# EAGLE library part AY-5-1013A (library general-instrument)
UART
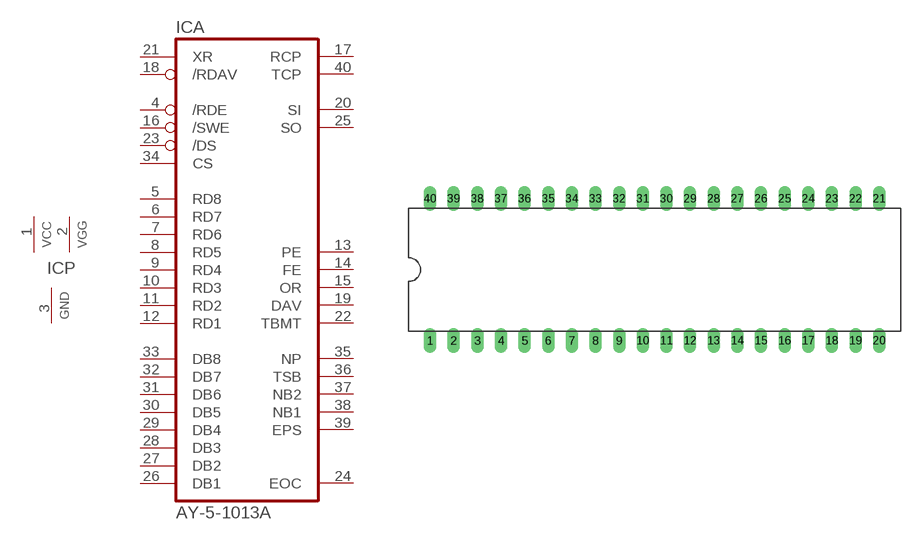
[diagram p2: symbol with the pads of DIL40; footprint DIL40]

Designator prefix IC; gates A=AY-3-1015 P=VCCVGGGND

## AY-5-1013A  [DIL40]
1  P:VCC  pwr
2  P:VGG  pwr
3  P:GND  pwr
4  A:/RDE  in
5  A:RD8  hiz
6  A:RD7  hiz
7  A:RD6  hiz
8  A:RD5  hiz
9  A:RD4  hiz
10  A:RD3  hiz
11  A:RD2  hiz
12  A:RD1  hiz
13  A:PE  hiz
14  A:FE  hiz
15  A:OR  hiz
16  A:/SWE  in
17  A:RCP  in
18  A:/RDAV  in
19  A:DAV  hiz
20  A:SI  in
21  A:XR  in
22  A:TBMT  hiz
23  A:/DS  in
24  A:EOC  out
25  A:SO  out
26  A:DB1  in
27  A:DB2  in
28  A:DB3  in
29  A:DB4  in
30  A:DB5  in
31  A:DB6  in
32  A:DB7  in
33  A:DB8  in
34  A:CS  in
35  A:NP  in
36  A:TSB  in
37  A:NB2  in
38  A:NB1  in
39  A:EPS  in
40  A:TCP  in

## Footprint DIL40 (pad centres in mm)
Dual In Line
drill 0.813 long: 1 -24.13,-7.62; 2 -21.59,-7.62; 3 -19.05,-7.62; 4 -16.51,-7.62; 5 -13.97,-7.62; 6 -11.43,-7.62; 7 -8.89,-7.62; 8 -6.35,-7.62; 9 -3.81,-7.62; 10 -1.27,-7.62; 11 1.27,-7.62; 12 3.81,-7.62; 13 6.35,-7.62; 14 8.89,-7.62; 15 11.43,-7.62; 16 13.97,-7.62; 17 16.51,-7.62; 18 19.05,-7.62; 19 21.59,-7.62; 20 24.13,-7.62; 21 24.13,7.62; 22 21.59,7.62; 23 19.05,7.62; 24 16.51,7.62; 25 13.97,7.62; 26 11.43,7.62; 27 8.89,7.62; 28 6.35,7.62; 29 3.81,7.62; 30 1.27,7.62; 31 -1.27,7.62; 32 -3.81,7.62; 33 -6.35,7.62; 34 -8.89,7.62; 35 -11.43,7.62; 36 -13.97,7.62; 37 -16.51,7.62; 38 -19.05,7.62; 39 -21.59,7.62; 40 -24.13,7.62